# EAGLE library part 689112131822 (library WR-WTB)
WR-WTB 0.80 mm Male Header Characteristics Properties: Rated Current: 0.5 A Working Voltage: 30 V Operating temperature: -25 °C to +85 °C UL 94-V0 Features: Fine pitch SMT soldering Applications Microelectronic Portable devices Industry 4.0 <https://www.we-online.com/components/media/o841802v209%20Multi-WR-WTB080-689302124022.jpg> Details see: www.we-online.com/en/components/products/WR-WTB_0_8_MALE_HEADER#/articles/WR-WTB_08_MM_MALE_SIZE_HORIZONTAL <www.we-online.com/catalog/WR-WTB_0_8_MALE_HEADER#/articles/WR-WTB_08_MM_MALE_SIZE_HORIZONTAL/?utm_source=eagle_model&utm_medium=description_link&utm_campaign=eisos_eagle> Created by Ella 2025-03-06 2025 (C) Würth Elektronik
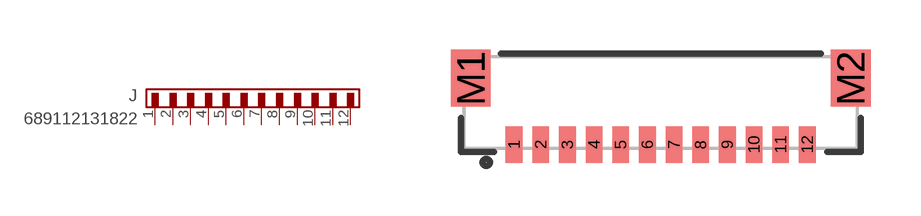
[diagram p141: symbol with the pads of 689112131822; footprint 689112131822]

Designator prefix J

## 689112131822 (CONTACT-RESISTANCE: 20mOhm; DATASHEET-URL: https://www.we-online.com/redexpert/spec/689112131822?ae; GENDER: Male; IR: 0.5A; L: 11.8mm; MOUNT: SMT; PACKAGING: Tape and Reel with Cap; PART-NUMBER: 689112131822; PCB-CABLE-PANEL: PCB; PINS: 12; PITCH: 0.8mm; TYPE: Horizontal; VALUE: 689112131822; WORKING-VOLTAGE: 30V(AC))  [689112131822]
1  1  pas
2  2  pas
3  3  pas
4  4  pas
5  5  pas
6  6  pas
7  7  pas
8  8  pas
9  9  pas
10  10  pas
11  11  pas
12  12  pas

## Footprint 689112131822 (pad centres in mm)
WR-WTB 0.80 mm Male Header Horizontal, SMT, 12Pins
smd 0.5 x 1.1: 1 -4.4,0; 2 -3.6,0; 3 -2.8,0; 4 -2,0; 5 -1.2,0; 6 -0.4,0; 7 0.4,0; 8 1.2,0; 9 2,0; 10 2.8,0; 11 3.6,0; 12 4.4,0
smd 1.2 x 1.7: M1 -5.7,2; M2 5.7,2